# Altium footprint library ESP32-S3-DEVKITC-1.PcbLib: 2 footprints
Each footprint in its own frame and in the unit in brackets; x right, y up, seen from the top. Pads: shape width x height; smd on the part's side, far side on the other; paste and mask are expansions set on the pad; w line width, h text height; cw(c..) or ccw(c..) is an arc to the next point about the centre after c.
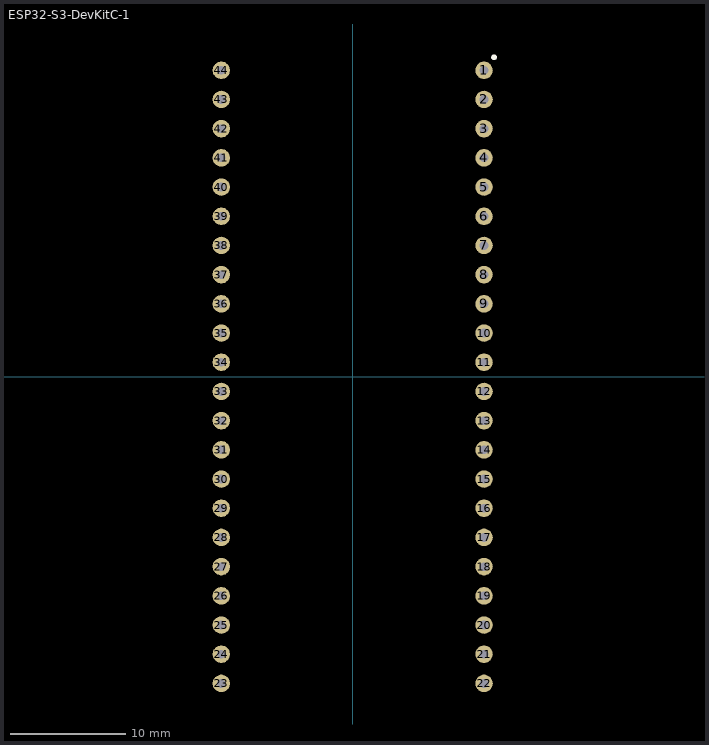
[diagram p0: the footprints below, top view; thin cyan lines are the x and y axes]

## ESP32-S3-DevKitC-1 [mil]
pads (44):
  round 60 hole 30: 1(450,1050) 2(450,950) 3(450,850) 4(450,750) 5(450,650) 6(450,550) 7(450,450) 8(450,350) 9(450,250) 10(450,150) 11(450,50) 12(450,-50) 13(450,-150) 14(450,-250) 15(450,-350) 16(450,-450) 17(450,-550) 18(450,-650) 19(450,-750) 20(450,-850) 21(450,-950) 22(450,-1050) 23(-450,-1050) 24(-450,-950) 25(-450,-850) 26(-450,-750) 27(-450,-650) 28(-450,-550) 29(-450,-450) 30(-450,-350) 31(-450,-250) 32(-450,-150) 33(-450,-50) 34(-450,50) 35(-450,150) 36(-450,250) 37(-450,350) 38(-450,450) 39(-450,550) 40(-450,650) 41(-450,750) 42(-450,850) 43(-450,950) 44(-450,1050)
Top Overlay:
  circle w10: c484.25,1094.49 r5
3D body "PPTC221LFBN-RC.STEP": height 126, standoff -335, extent -500,-1110 -400,1110
3D body "PPTC221LFBN-RC.STEP": height 126, standoff -335, extent 400,-1110 500,1110

## PCBComponent_1 [mil]